# Altium footprint library CAPC4520X200N.PcbLib: 1 footprints
Each footprint in its own frame and in the unit in brackets; x right, y up, seen from the top. Pads: shape width x height; smd on the part's side, far side on the other; paste and mask are expansions set on the pad; w line width, h text height; cw(c..) or ccw(c..) is an arc to the next point about the centre after c.
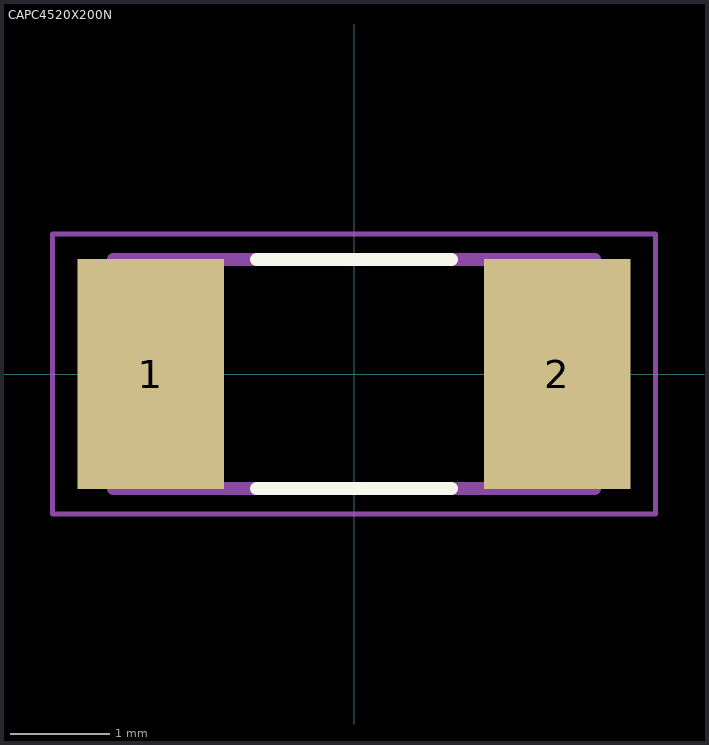
[diagram p0: the footprint, top view; thin cyan lines are the x and y axes]

## CAPC4520X200N [mm]
pads (2):
  rect 1.47x2.31 smd: 1(-2.042,0) 2(2.042,0)
Top Overlay:
  lines w0.127: -0.98,-1.15 0.98,-1.15 ; -0.98,1.15 0.98,1.15
Mechanical 13:
  lines w0.127: -2.42,-1.15 -2.42,1.15 2.42,1.15 2.42,-1.15 -2.42,-1.15
Mechanical 15:
  lines w0.05: -3.029,-1.405 -3.029,1.405 3.029,1.405 3.029,-1.405 -3.029,-1.405
3D body "1808Y5K00101JXT.STEP": height 2.02, standoff 0.02, extent -2.25,-1.016 2.25,0.984